# EAGLE library part LSF0108RKSR (library Joule Expansion Board)
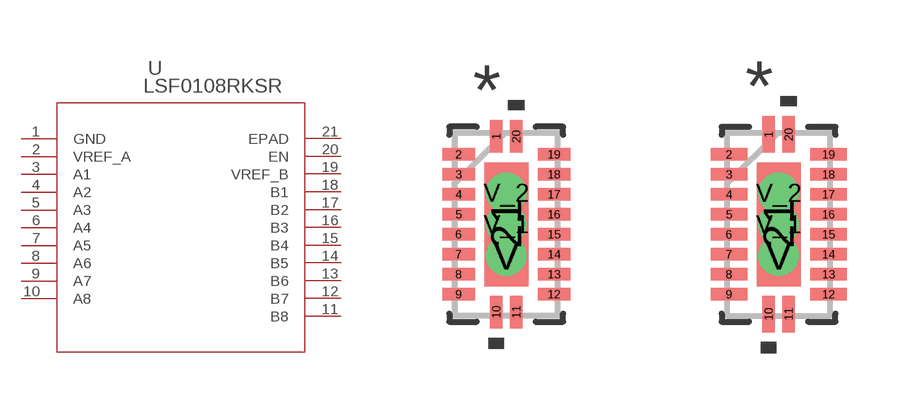
[diagram p2: symbol with the pads of RKS20_1P1X3P1; footprints RKS20_1P1X3P1, RKS20_1P1X3P1-M]

Designator prefix U

## LSF0108RKSR (MANUFACTURER_PART_NUMBER: lsf0108rksr; VENDOR: Texas Instruments)  [RKS20_1P1X3P1]
1  GND  pwr
2  VREF_A  pas
3  A1  pas
4  A2  pas
5  A3  pas
6  A4  pas
7  A5  pas
8  A6  pas
9  A7  pas
10  A8  pas
11  B8  pas
12  B7  pas
13  B6  pas
14  B5  pas
15  B4  pas
16  B3  pas
17  B2  pas
18  B1  pas
19  VREF_B  pas
20  EN  pas
21  EPAD  pas

## LSF0108RKSRRKS20_1P1X3P1-M (MANUFACTURER_PART_NUMBER: lsf0108rksr; VENDOR: Texas Instruments)  [RKS20_1P1X3P1-M]
Pads as for RKS20_1P1X3P1

## LSF0108RKSRRKS20_1P1X3P1-L (MANUFACTURER_PART_NUMBER: lsf0108rksr; VENDOR: Texas Instruments)  [RKS20_1P1X3P1-L]
Pads as for RKS20_1P1X3P1

## Footprint RKS20_1P1X3P1 (pad centres in mm)
smd 0.305 x 0.813: 1 -0.25,2.197; 10 -0.25,-2.197; 11 0.25,-2.197; 20 0.25,2.197
smd 0.813 x 0.305: 2 -1.194,1.75; 3 -1.194,1.25; 4 -1.194,0.75; 5 -1.194,0.25; 6 -1.194,-0.25; 7 -1.194,-0.75; 8 -1.194,-1.25; 9 -1.194,-1.75; 12 1.194,-1.75; 13 1.194,-1.25; 14 1.194,-0.75; 15 1.194,-0.25; 16 1.194,0.25; 17 1.194,0.75; 18 1.194,1.25; 19 1.194,1.75
smd 1.1 x 3.1: 21 0,0
drill 0.508 pad 0.508: V 0,-0.787; V_1 0,0; V_2 0,0.787

## Footprint RKS20_1P1X3P1-M (pad centres in mm)
smd 0.305 x 0.914: 1 -0.25,2.248; 10 -0.25,-2.248; 11 0.25,-2.248; 20 0.25,2.248
smd 0.914 x 0.305: 2 -1.245,1.75; 3 -1.245,1.25; 4 -1.245,0.75; 5 -1.245,0.25; 6 -1.245,-0.25; 7 -1.245,-0.75; 8 -1.245,-1.25; 9 -1.245,-1.75; 12 1.245,-1.75; 13 1.245,-1.25; 14 1.245,-0.75; 15 1.245,-0.25; 16 1.245,0.25; 17 1.245,0.75; 18 1.245,1.25; 19 1.245,1.75
smd 1.1 x 3.1: 21 0,0
drill 0.508 pad 0.508: V 0,-0.787; V_1 0,0; V_2 0,0.787

## Footprint RKS20_1P1X3P1-L (pad centres in mm)
smd 0.305 x 0.711: 1 -0.25,2.146; 10 -0.25,-2.146; 11 0.25,-2.146; 20 0.25,2.146
smd 0.711 x 0.305: 2 -1.143,1.75; 3 -1.143,1.25; 4 -1.143,0.75; 5 -1.143,0.25; 6 -1.143,-0.25; 7 -1.143,-0.75; 8 -1.143,-1.25; 9 -1.143,-1.75; 12 1.143,-1.75; 13 1.143,-1.25; 14 1.143,-0.75; 15 1.143,-0.25; 16 1.143,0.25; 17 1.143,0.75; 18 1.143,1.25; 19 1.143,1.75
smd 1.1 x 3.1: 21 0,0
drill 0.508 pad 0.508: V 0,-0.787; V_1 0,0; V_2 0,0.787